# EAGLE library part LPC11C24FBD48/301 (library QFP50P900X900X160-48N)
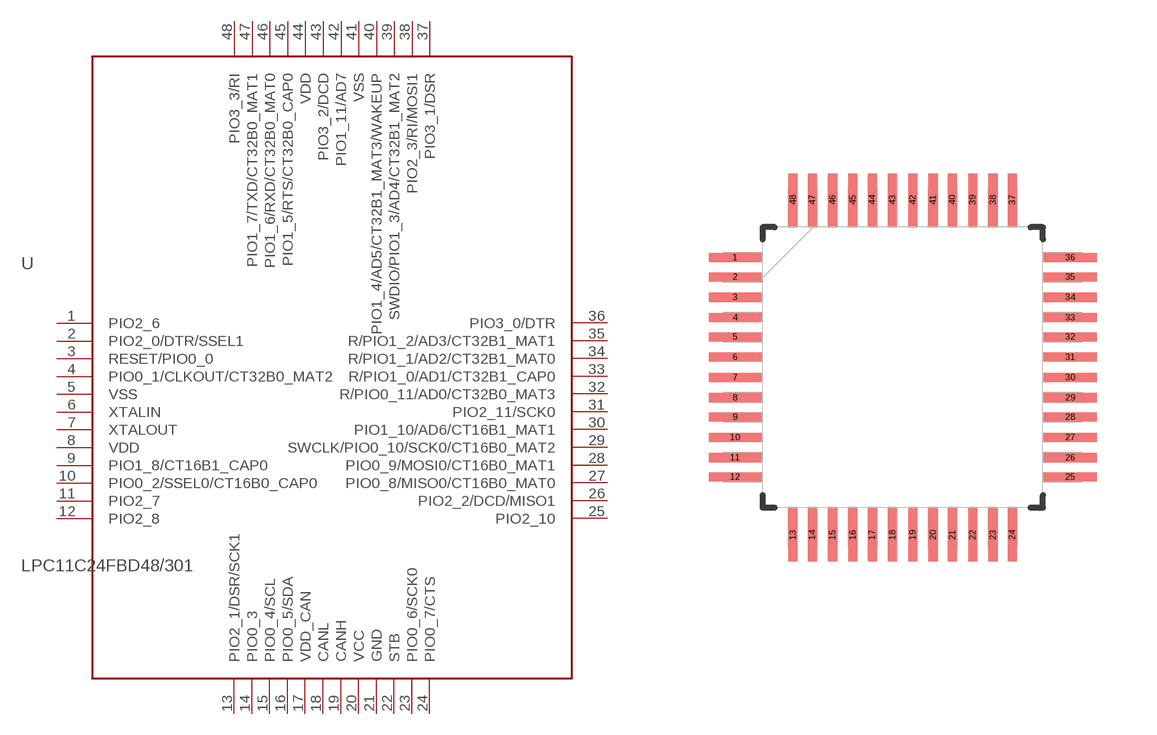
[diagram p0: symbol with the pads of QFP50P900X900X160-48N; footprint QFP50P900X900X160-48N]

Designator prefix -

## LPC11C24FBD48/301  [QFP50P900X900X160-48N]
1  PIO2_6
2  PIO2_0/DTR/SSEL1
3  RESET/PIO0_0
4  PIO0_1/CLKOUT/CT32B0_MAT2
5  VSS
6  XTALIN
7  XTALOUT
8  VDD
9  PIO1_8/CT16B1_CAP0
10  PIO0_2/SSEL0/CT16B0_CAP0
11  PIO2_7
12  PIO2_8
13  PIO2_1/DSR/SCK1
14  PIO0_3
15  PIO0_4/SCL
16  PIO0_5/SDA
17  VDD_CAN
18  CANL
19  CANH
20  VCC
21  GND
22  STB
23  PIO0_6/SCK0
24  PIO0_7/CTS
25  PIO2_10
26  PIO2_2/DCD/MISO1
27  PIO0_8/MISO0/CT16B0_MAT0
28  PIO0_9/MOSI0/CT16B0_MAT1
29  SWCLK/PIO0_10/SCK0/CT16B0_MAT2
30  PIO1_10/AD6/CT16B1_MAT1
31  PIO2_11/SCK0
32  R/PIO0_11/AD0/CT32B0_MAT3
33  R/PIO1_0/AD1/CT32B1_CAP0
34  R/PIO1_1/AD2/CT32B1_MAT0
35  R/PIO1_2/AD3/CT32B1_MAT1
36  PIO3_0/DTR
37  PIO3_1/DSR
38  PIO2_3/RI/MOSI1
39  SWDIO/PIO1_3/AD4/CT32B1_MAT2
40  PIO1_4/AD5/CT32B1_MAT3/WAKEUP
41  VSS
42  PIO1_11/AD7
43  PIO3_2/DCD
44  VDD
45  PIO1_5/RTS/CT32B0_CAP0
46  PIO1_6/RXD/CT32B0_MAT0
47  PIO1_7/TXD/CT32B0_MAT1
48  PIO3_3/RI

## Footprint QFP50P900X900X160-48N (pad centres in mm)
smd 1.321 x 0.229: 1 -4.191,2.743; 2 -4.191,2.261; 3 -4.191,1.753; 4 -4.191,1.245; 5 -4.191,0.762; 6 -4.191,0.254; 7 -4.191,-0.254; 8 -4.191,-0.762; 9 -4.191,-1.245; 10 -4.191,-1.753; 11 -4.191,-2.261; 12 -4.191,-2.743; 25 4.191,-2.743; 26 4.191,-2.261; 27 4.191,-1.753; 28 4.191,-1.245; 29 4.191,-0.762; 30 4.191,-0.254; 31 4.191,0.254; 32 4.191,0.762; 33 4.191,1.245; 34 4.191,1.753; 35 4.191,2.261; 36 4.191,2.743
smd 0.229 x 1.321: 13 -2.743,-4.191; 14 -2.261,-4.191; 15 -1.753,-4.191; 16 -1.245,-4.191; 17 -0.762,-4.191; 18 -0.254,-4.191; 19 0.254,-4.191; 20 0.762,-4.191; 21 1.245,-4.191; 22 1.753,-4.191; 23 2.261,-4.191; 24 2.743,-4.191; 37 2.743,4.191; 38 2.261,4.191; 39 1.753,4.191; 40 1.245,4.191; 41 0.762,4.191; 42 0.254,4.191; 43 -0.254,4.191; 44 -0.762,4.191; 45 -1.245,4.191; 46 -1.753,4.191; 47 -2.261,4.191; 48 -2.743,4.191